# Altium schematic symbol library SCH - OPAMP - TI TLV171-Q1.Schlib: 1 symbol
Pins are listed as number, name and electrical type; pins without a type are passive.

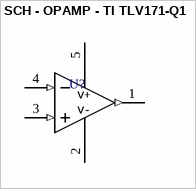
[diagram p0: symbol SCH - OPAMP - TI TLV171-Q1]

## SCH - OPAMP - TI TLV171-Q1
designator U?
footprint DBV0005A_N
pins: 1 OUT (out), 2 V- (power), 3 IN+ (in), 4 IN- (in), 5 V+ (power)